# Altium schematic symbol library ActiveComponents.SchLib: 18 symbols
Pins are listed as number, name and electrical type; pins without a type are passive.

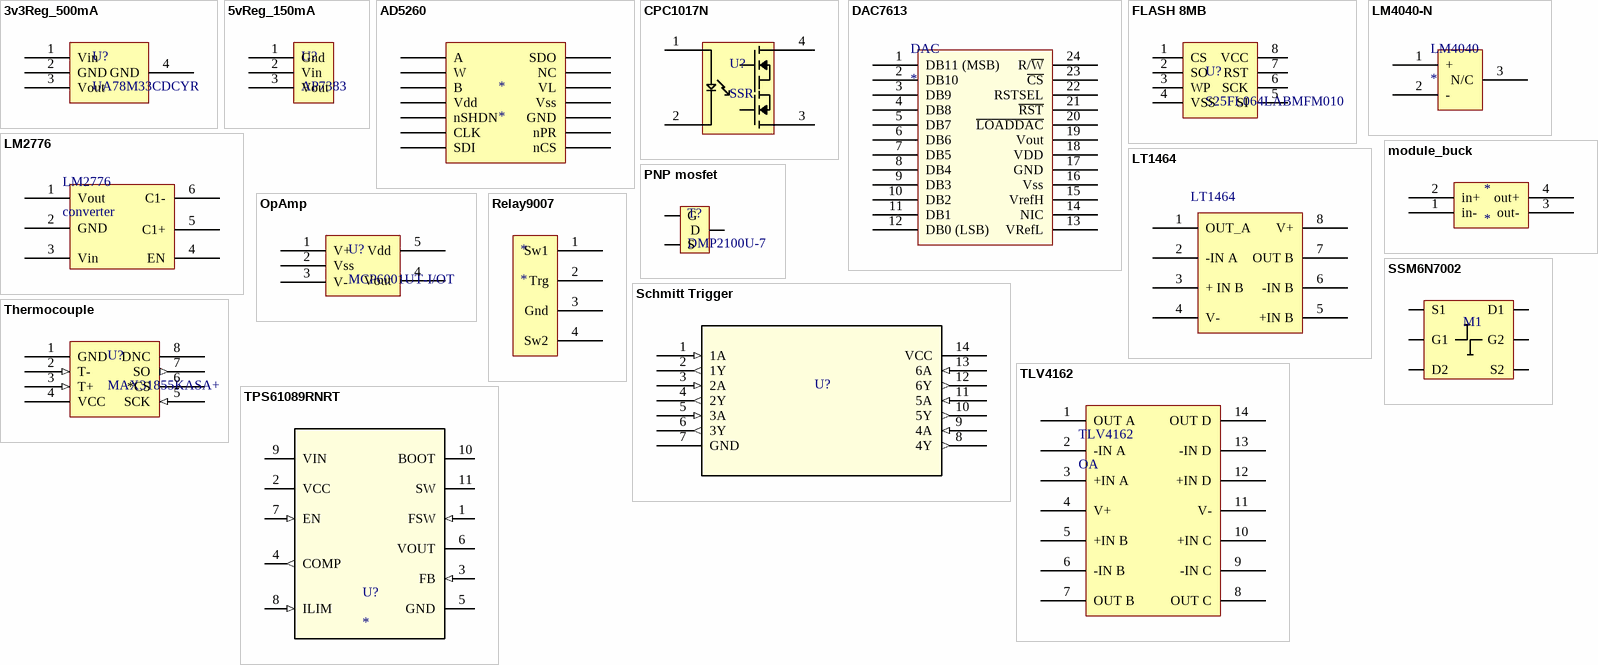
[diagram p0: symbols 3v3Reg_500mA to TPS61089RNRT]

## 3v3Reg_500mA
designator U?, comment UA78M33CDCYR
3.3V lin regulator / 500mA / UA78M33CDCYR
footprint SOT223-4
pins: 1 Vin, 2 GND, 3 Vout, 4 GND

## 5vReg_150mA
designator U?, comment AP7383
5V lin Regulator / 150mA / AP7383
footprint sot89-3
pins: 1 Gnd, 2 Vin, 3 Vout

## AD5260
designator *
footprint TSSOP-14
pins: 1 A, 2 W, 3 B, 4 Vdd, 5 nSHDN, 6 CLK, 7 SDI, 8 nCS, 9 nPR, 10 GND, 11 Vss, 12 VL, 13 NC, 14 SDO

## CPC1017N
designator U?, comment SSR
Solid State SPST-NO _1 Form A_ 4-SOP _0.150, 3.81mm_; MP: CPC1017N; MF: IXYS Integrated; Package: SOP-4 IXYS; SnapEDA_Link: https://www.snapeda.com/parts/CPC1017N/IXYS%20Integrated%20Circuits%20Division/view-part/345722/?ref=snap; Value: *; Availability: Unavailable; Price: None
footprint 4-pin SOP
pins: 1 +CONTROL, 2 -CONTROL, 3 LOAD1, 4 LOAD2

## DAC7613
designator DAC
12-bit DAC
footprint SSOP (DB) 24
pins: 1 DB11 (MSB), 2 DB10, 3 DB9, 4 DB8, 5 DB7, 6 DB6, 7 DB5, 8 DB4, 9 DB3, 10 DB2, 11 DB1, 12 DB0 (LSB), 13 VRefL, 14 NIC, 15 VrefH, 16 Vss, 17 GND, 18 VDD, 19 Vout, 20 ~{LOADDAC}, 21 ~{RST}, 22 RSTSEL, 23 ~{CS}, 24 R/~{W}

## FLASH 8MB
designator U?, comment S25FL064LABMFM010
#pièce : S25FL064LABMFM010 / #digikey : 428-4094-ND
footprint SOIC-8
pins: 1 CS, 2 SO, 3 WP, 4 VSS, 5 SI, 6 SCK, 7 RST, 8 VCC

## LM2776
designator LM2776, comment converter
footprint LM2776 (+5 to -5V converter)
pins: 1 Vout, 2 GND, 3 Vin, 4 EN, 5 C1+, 6 C1-

## LM4040-N
designator LM4040
Precision shunt voltage reference
footprint SOT-23 (DBZ) 3
pins: 1 +, 2 -, 3 N/C

## LT1464
designator LT1464, comment OA  (value not drawn)
SOIC-8
footprint LT1464 (SOIC-8)
pins: 1 OUT_A, 2 -IN A, 3 + IN B, 4 V-, 5 +IN B, 6 -IN B, 7 OUT B, 8 V+

## module_buck
designator *
footprint Shield_buck_converter
pins: 1 in-, 2 in+, 3 out-, 4 out+

## OpAmp
designator U?, comment MCP6001UT-I/OT
1 circuit OpAmp / MCP6001UT-I/OT
footprint SOT23-5
pins: 1 V+, 2 Vss, 3 V-, 4 Vout, 5 Vdd

## PNP mosfet
designator T?, comment DMP2100U-7
P-Channel mosfet / DMP2100U-7
footprint SOT-23 (DBZ) 3
pins: 1 G, 2 S, 3 D

## Relay9007
designator *
footprint Relay
footprint COTO_9007
pins: 1 Sw1, 2 Trg, 3 Gnd, 4 Sw2

## Schmitt Trigger
designator U?, comment Part Number: SN7414DR  (value not drawn)
Schmitt Trigger / SN7414DR; Manufacturer: Texas Instruments; Built_By: EMA_UL_Team; Vendor: Texas Instruments; Manufacturer_Part_Number: SN7414DR; Copyright: Copyright (C) 2018 Accelerated Designs. All rights reserved; RefDes: RefDes; Type: DEV; Value: Value
footprint SOIC-14
pins: 1 1A (in), 2 1Y (out), 3 2A (in), 4 2Y (out), 5 3A (in), 6 3Y (out), 7 GND (power), 8 4Y (out), 9 4A (in), 10 5Y (out), 11 5A (in), 12 6Y (out), 13 6A (in), 14 VCC (power)

## SSM6N7002
designator M1, comment Mosfet pair  (value not drawn)
footprint SSM6N7002 (N-Mosfet pair)
pins: 1 S1, 2 G1, 3 D2, 4 S2, 5 G2, 6 D1

## Thermocouple
designator U?, comment MAX31855KASA+
# piece : MAX31855KASA+ / #digikey : / MAX31855KASA+-ND; Vendor: Maxim Integrated Products; Built_By: EMA_UL_Team; SourceLibrary: Maxim_2014-05-21; Manufacturer_Part_Number: MAX31855KASA+; Copyright: Copyright (C) 2018 Accelerated Designs. All rights reserved; RefDes: RefDes; Type: DEV
footprint SOIC-8
pins: 1 GND (power), 2 T- (in), 3 T+ (in), 4 VCC (power), 5 SCK (in), 6 *CS, 7 SO (out), 8 DNC

## TLV4162
designator TLV4162, comment OA
footprint TLV4172 (14TSSOP)
pins: 1 OUT A, 2 -IN A, 3 +IN A, 4 V+, 5 +IN B, 6 -IN B, 7 OUT B, 8 OUT C, 9 -IN C, 10 +IN C, 11 V-, 12 +IN D, 13 -IN D, 14 OUT D

## TPS61089RNRT
designator U?
No Description Available; PartNumber: TPS61089RNRR; Manufacturer: Texas Instruments; RefDes: RefDes; Type: DEV; Value: Value; Copyright: Copyright (C) 2018 Accelerated Designs. All rights reserved
footprint RNR0011A
pins: 1 FSW (in), 2 VCC (power), 3 FB (in), 4 COMP (out), 5 GND (power), 6 VOUT (power), 7 EN (in), 8 ILIM (in), 9 VIN (power), 10 BOOT (power), 11 SW (power)